# Altium schematic symbol library SH1.0.SchLib: 2 symbols
Pins are listed as number, name and electrical type; pins without a type are passive.

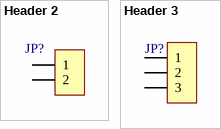
[diagram p0: symbols Header 2 to Header 3]

## Header 2
designator JP?, comment HDR-1X2  (value not drawn)
2P接插件
footprint SH1.0-2P
pins: 1, 2

## Header 3
designator JP?, comment HDR-1X3  (value not drawn)
3P接插件
footprint SH1.0-3P
pins: 1, 2, 3